# Altium footprint library NTC.PcbLib: 1 footprints
Each footprint in its own frame and in the unit in brackets; x right, y up, seen from the top. Pads: shape width x height; smd on the part's side, far side on the other; paste and mask are expansions set on the pad; w line width, h text height; cw(c..) or ccw(c..) is an arc to the next point about the centre after c.
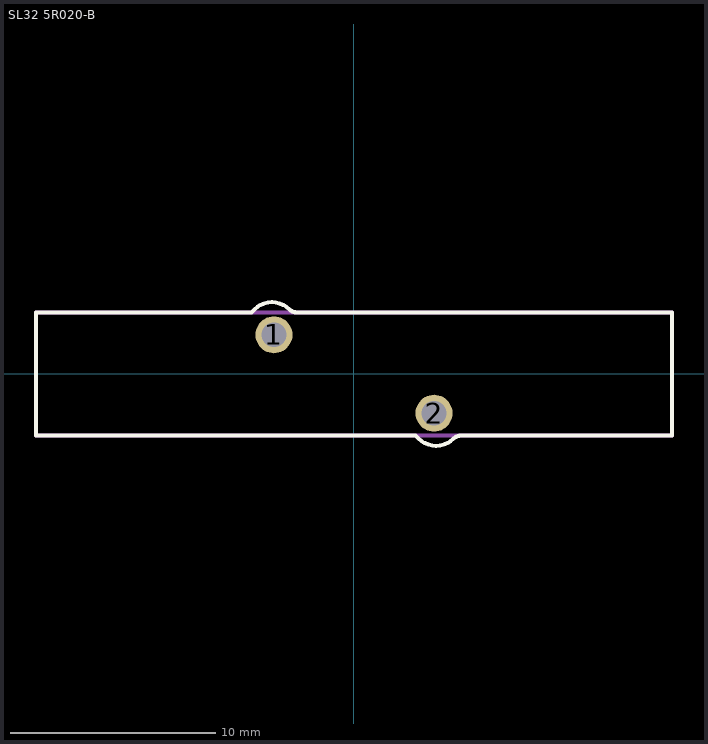
[diagram p0: the footprint, top view; thin cyan lines are the x and y axes]

## SL32 5R020-B [mm] "Chip Resistor, 2-Leads, Body 3.15x4.60mm, IPC High Density"
height 0.6
pads (2):
  round 1.8 hole 1.2: 1(-3.9,1.91) 2(3.9,-1.91)
Top Overlay:
  lines w0.2: -15.5,-3 -15.5,3 -5,3 -4.854,3.146 cw(c-4,2.293) -4,3.5 cw(c-4,2.293) -3.146,3.146 ccw(c-2.793,3.5) -2.793,3 15.5,3 15.5,-3 5.207,-3 ccw(c5.207,-3.5) 4.854,-3.146 cw(c4,-2.293) 4,-3.5 cw(c4,-2.293) 3.146,-3.146 3,-3 -15.5,-3
Mechanical 13:
  lines w0.2: -15.5,-3 15.5,-3 15.5,3 -15.5,3 -15.5,-3
Mechanical 15:
  lines w0.1: -15.5,-3 15.5,-3 15.5,3 -15.5,3 -15.5,-3
3D body "SL32_5R020-B.stp": height 38.9, standoff -30.1, extent -15.5,-2.61 15.5,2.61